# Altium schematic symbol library S8421-45R.SchLib: 1 symbol
Pins are listed as number, name and electrical type; pins without a type are passive.

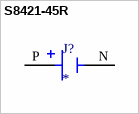
[diagram p0: symbol S8421-45R]

## S8421-45R
designator J?
Coin Cell Battery Retainer, Horizontal SMT, for CR2032 Coin Cell Batteries, Tape & Reeled; MF: Harwin; MP: S8421-45R; SnapEDA_Link: https://www.snapeda.com/parts/S8421-45R/Harwin+Inc./view-part/?ref=snap; Package: None; Value: *; Check_prices: https://www.snapeda.com/parts/S8421-45R/Harwin+Inc./view-part/?ref=eda
footprint HARWIN_S8421-45R
pins: N NEG, P POS